# Altium integrated library LT6000CDCB_TRPBF.IntLib: 1 symbol
Pins are listed as number, name and electrical type; pins without a type are passive.

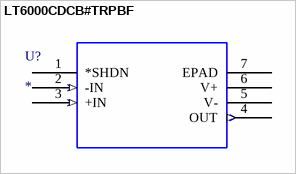
[diagram p0: symbol LT6000CDCB#TRPBF]

## LT6000CDCB#TRPBF
designator U?
Op Amp Single Low Power Amplifier R-R I/O 18V Automotive 6-Pin DFN EP T/R; MF: Analog Devices; MP: LT6000CDCB#TRPBF; SnapEDA_Link: https://www.snapeda.com/parts/LT6000CDCB%23TRPBF/Analog+Devices/view-part/?ref=snap; Price: None; Package: DFN -6 Analog Devices; Check_prices: https://www.snapeda.com/parts/LT6000CDCB%23TRPBF/Analog+Devices/view-part/?ref=eda; Value: *; Availability: In Stock
footprint DFN-6_DCB
pins: 1 *SHDN, 2 -IN (in), 3 +IN (in), 4 OUT (out), 5 V- (power), 6 V+ (power), 7 EPAD